# Altium footprint library miniMMC_v2.PcbLib: 24 footprints (part 1 of 2)
Each footprint in its own frame and in the unit in brackets; x right, y up, seen from the top. Pads: shape width x height; smd on the part's side, far side on the other; paste and mask are expansions set on the pad; w line width, h text height; cw(c..) or ccw(c..) is an arc to the next point about the centre after c.
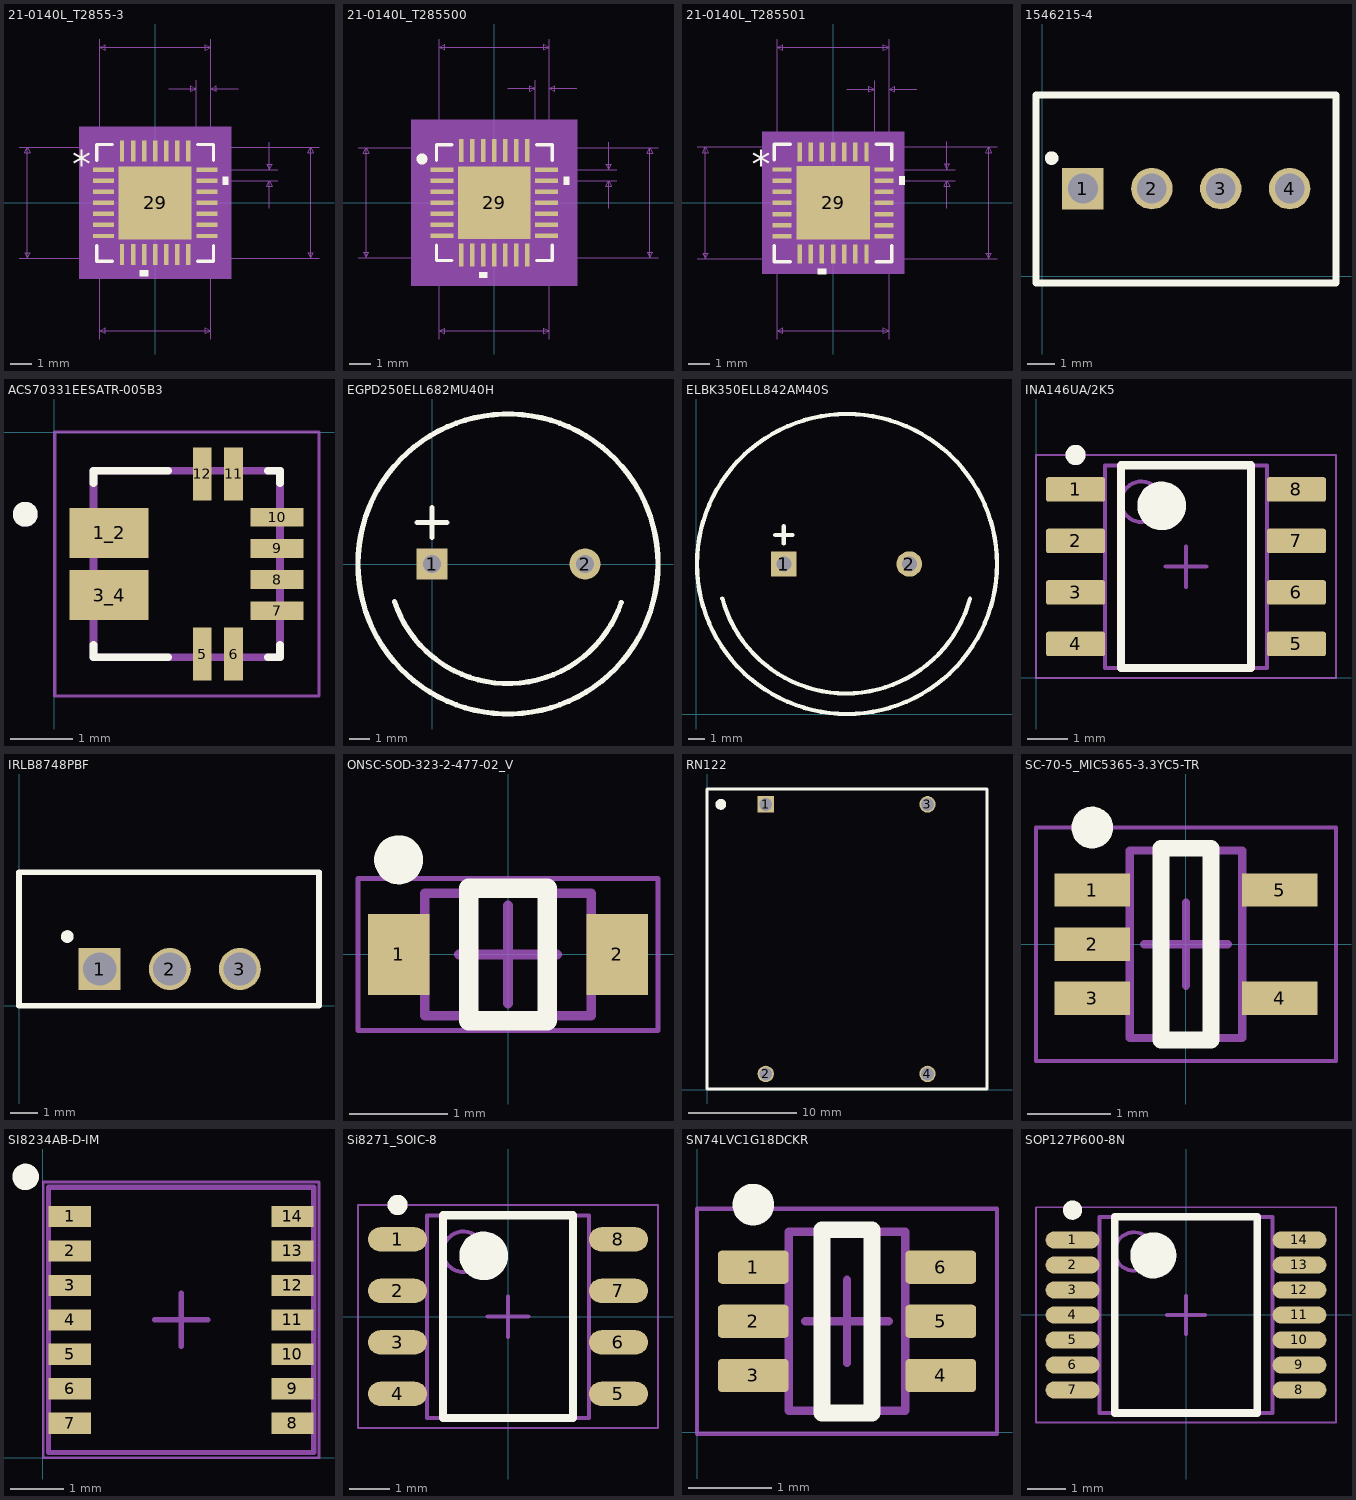
[diagram p0: the footprints below, top view; thin cyan lines are the x and y axes]

## 21-0140L_T2855-3 [mil]
pads (29):
  rect 38x8 smd paste+0 mask+0: 1(-93.5,60) 2(-93.5,40) 3(-93.5,20) 4(-93.5,0) 5(-93.5,-20) 6(-93.5,-40) 7(-93.5,-60) 15(93.5,-60) 16(93.5,-40) 17(93.5,-20) 18(93.5,0) 19(93.5,20) 20(93.5,40) 21(93.5,60)
  rect 8x38 smd paste+0 mask+0: 8(-60,-93.5) 9(-40,-93.5) 10(-20,-93.5) 11(0,-93.5) 12(20,-93.5) 13(40,-93.5) 14(60,-93.5) 22(60,93.5) 23(40,93.5) 24(20,93.5) 25(0,93.5) 26(-20,93.5) 27(-40,93.5) 28(-60,93.5)
  rect 132x132 smd paste-65.5 mask+0: 29(0,0)
Top Overlay:
  region: -12.5,-122.5 -27.5,-122.5 -27.5,-132.5 -12.5,-132.5
  region: 122.5,47.5 132.5,47.5 132.5,32.5 122.5,32.5
  lines w6: -105.5,-77.1 -105.5,-105.5 -77.1,-105.5 ; -105.5,77.1 -105.5,105.5 -77.1,105.5 ; 77.1,-105.5 105.5,-105.5 105.5,-77.1 ; 77.1,105.5 105.5,105.5 105.5,77.1
  text "*" at -150,45 h50
Top Paste:
  region: -3.94,62.06 -62.06,62.06 -62.06,3.94 -3.94,3.94
  region: -3.94,-3.94 -62.06,-3.94 -62.06,-62.06 -3.94,-62.06
  region: 62.06,62.06 3.94,62.06 3.94,3.94 62.06,3.94
  region: 62.06,-3.94 3.94,-3.94 3.94,-62.06 62.06,-62.06
Mechanical 5:
  region: 137.5,-137.5 -137.5,-137.5 -137.5,137.5 137.5,137.5
Mechanical 7:
  lines w1: -246.5,-100.5 100.5,-100.5 ; -246.5,100.5 100.5,100.5 100.5,-246.5 ; -100.5,-246.5 -100.5,100.5 ; -100.5,60 -100.5,296.5 ; 24.5,206.5 74.5,206.5 ; 60,-100.5 296.5,-100.5 ; 60,100.5 296.5,100.5 ; 74.5,60 74.5,221.5 ; 93.5,40 221.5,40 ; 93.5,60 221.5,60 ; 100.5,221.5 100.5,60 100.5,296.5 ; 150.5,206.5 100.5,206.5 ; 206.5,-10 206.5,40 ; 206.5,110 206.5,60 ; -231.5,-100.5 -231.5,100.5 ; -231.5,-100.5 -236.5,-90.5 -226.5,-90.5 -231.5,-100.5 ; -231.5,100.5 -236.5,90.5 -226.5,90.5 -231.5,100.5 ; -100.5,-231.5 100.5,-231.5 ; -100.5,-231.5 -90.5,-226.5 -90.5,-236.5 -100.5,-231.5 ; -100.5,281.5 100.5,281.5 ; -100.5,281.5 -90.5,286.5 -90.5,276.5 -100.5,281.5 ; 74.5,206.5 64.5,211.5 64.5,201.5 74.5,206.5 ; 100.5,-231.5 90.5,-226.5 90.5,-236.5 100.5,-231.5 ; 100.5,206.5 110.5,211.5 110.5,201.5 100.5,206.5 ; 100.5,281.5 90.5,286.5 90.5,276.5 100.5,281.5 ; 206.5,40 201.5,30 211.5,30 206.5,40 ; 206.5,60 201.5,70 211.5,70 206.5,60 ; 281.5,-100.5 281.5,100.5 ; 281.5,-100.5 276.5,-90.5 286.5,-90.5 281.5,-100.5 ; 281.5,100.5 276.5,90.5 286.5,90.5 281.5,100.5
  text "Default Padstyle: RX8Y38D0T" at -337.5,-422.5 h50
  text "Heat Tab Padstyle: RX132Y132D0T" at -387.5,-482.5 h50
  text "Alt 1 Padstyle: OX60Y90D30P" at -337.5,-602.5 h50
  text "Alt 2 Padstyle: OX90Y60D30P" at -337.5,-662.5 h50
  text "0.02in/0.508mm" at 226.5,37.5 h25
  text "0.026in/0.66mm" at 0,226.5 h25
  text "0.201in/5.105mm" at -93.75,301.5 h25
  text "0.201in/5.105mm" at 301.5,-12.5 h25
  text "0.201in/5.105mm" at -439,-12.5 h25
  text "0.201in/5.105mm" at -93.75,-276.5 h25
Mechanical 13:
  lines w1: -100.5,50.5 -50.5,100.5 ; -100.5,-100.5 100.5,-100.5 100.5,100.5 -100.5,100.5 -100.5,-100.5 ; -100.5,-66 -100.5,-54 -100.5,-66 ; -100.5,-46 -100.5,-34 -100.5,-46 ; -100.5,-26 -100.5,-14 -100.5,-26 ; -100.5,-6 -100.5,6 -100.5,-6 ; -100.5,14 -100.5,26 -100.5,14 ; -100.5,34 -100.5,46 -100.5,34 ; -100.5,54 -100.5,66 -100.5,54 ; -66,-100.5 -54,-100.5 -66,-100.5 ; -66,100.5 -54,100.5 -66,100.5 ; -46,-100.5 -34,-100.5 -46,-100.5 ; -46,100.5 -34,100.5 -46,100.5 ; -26,-100.5 -14,-100.5 -26,-100.5 ; -26,100.5 -14,100.5 -26,100.5 ; -6,-100.5 6,-100.5 -6,-100.5 ; -6,100.5 6,100.5 -6,100.5 ; 14,-100.5 26,-100.5 14,-100.5 ; 14,100.5 26,100.5 14,100.5 ; 34,-100.5 46,-100.5 34,-100.5 ; 34,100.5 46,100.5 34,100.5 ; 54,-100.5 66,-100.5 54,-100.5 ; 54,100.5 66,100.5 54,100.5 ; 100.5,-66 100.5,-54 100.5,-66 ; 100.5,-46 100.5,-34 100.5,-46 ; 100.5,-26 100.5,-14 100.5,-26 ; 100.5,-6 100.5,6 100.5,-6 ; 100.5,14 100.5,26 100.5,14 ; 100.5,34 100.5,46 100.5,34 ; 100.5,54 100.5,66 100.5,54
  text "*" at -87,45 h50
Mechanical 15:
  region: -74,-110.5 -110.5,-110.5 -110.5,-74 -122.5,-74 -122.5,74 -110.5,74 -110.5,110.5 -74,110.5 -74,122.5 74,122.5 74,110.5 110.5,110.5 110.5,74 122.5,74 122.5,-74 110.5,-74 110.5,-110.5 74,-110.5 74,-122.5 -74,-122.5
  lines w6: -122.5,-74 -110.5,-74 -110.5,-110.5 -74,-110.5 -74,-122.5 74,-122.5 74,-110.5 110.5,-110.5 110.5,-74 122.5,-74 122.5,74 110.5,74 110.5,110.5 74,110.5 74,122.5 -74,122.5 -74,110.5 -110.5,110.5 -110.5,74 -122.5,74 -122.5,-74
3D body: height 10, standoff 0, extent 0,0 10,10

## 21-0140L_T285500 [mil]
pads (29):
  rect 42x8 smd paste+0 mask+0: 1(-95.5,60) 2(-95.5,40) 3(-95.5,20) 4(-95.5,0) 5(-95.5,-20) 6(-95.5,-40) 7(-95.5,-60) 15(95.5,-60) 16(95.5,-40) 17(95.5,-20) 18(95.5,0) 19(95.5,20) 20(95.5,40) 21(95.5,60)
  rect 8x42 smd paste+0 mask+0: 8(-60,-95.5) 9(-40,-95.5) 10(-20,-95.5) 11(0,-95.5) 12(20,-95.5) 13(40,-95.5) 14(60,-95.5) 22(60,95.5) 23(40,95.5) 24(20,95.5) 25(0,95.5) 26(-20,95.5) 27(-40,95.5) 28(-60,95.5)
  rect 132x132 smd paste-65.5 mask+0: 29(0,0)
Top Overlay:
  circle w10: c-131.89,79.72 r4.92
  region: -12.5,-126.5 -27.5,-126.5 -27.5,-136.5 -12.5,-136.5
  region: 126.5,47.5 136.5,47.5 136.5,32.5 126.5,32.5
  lines w6: -105.5,-77.1 -105.5,-105.5 -77.1,-105.5 ; -105.5,77.1 -105.5,105.5 -77.1,105.5 ; 77.1,-105.5 105.5,-105.5 105.5,-77.1 ; 77.1,105.5 105.5,105.5 105.5,77.1
Top Paste:
  region: -3.94,62.06 -62.06,62.06 -62.06,3.94 -3.94,3.94
  region: -3.94,-3.94 -62.06,-3.94 -62.06,-62.06 -3.94,-62.06
  region: 62.06,62.06 3.94,62.06 3.94,3.94 62.06,3.94
  region: 62.06,-3.94 3.94,-3.94 3.94,-62.06 62.06,-62.06
Mechanical 5:
  region: 151.5,-151.5 -151.5,-151.5 -151.5,151.5 151.5,151.5
Mechanical 7:
  lines w1: -248.5,-100.5 100.5,-100.5 ; -248.5,100.5 100.5,100.5 100.5,-248.5 ; -100.5,-248.5 -100.5,100.5 ; -100.5,60 -100.5,298.5 ; 24.5,208.5 74.5,208.5 ; 60,-100.5 298.5,-100.5 ; 60,100.5 298.5,100.5 ; 74.5,60 74.5,223.5 ; 95.5,40 223.5,40 ; 95.5,60 223.5,60 ; 100.5,223.5 100.5,60 100.5,298.5 ; 150.5,208.5 100.5,208.5 ; 208.5,-10 208.5,40 ; 208.5,110 208.5,60 ; -233.5,-100.5 -233.5,100.5 ; -233.5,-100.5 -238.5,-90.5 -228.5,-90.5 -233.5,-100.5 ; -233.5,100.5 -238.5,90.5 -228.5,90.5 -233.5,100.5 ; -100.5,-233.5 100.5,-233.5 ; -100.5,-233.5 -90.5,-228.5 -90.5,-238.5 -100.5,-233.5 ; -100.5,283.5 100.5,283.5 ; -100.5,283.5 -90.5,288.5 -90.5,278.5 -100.5,283.5 ; 74.5,208.5 64.5,213.5 64.5,203.5 74.5,208.5 ; 100.5,-233.5 90.5,-228.5 90.5,-238.5 100.5,-233.5 ; 100.5,208.5 110.5,213.5 110.5,203.5 100.5,208.5 ; 100.5,283.5 90.5,288.5 90.5,278.5 100.5,283.5 ; 208.5,40 203.5,30 213.5,30 208.5,40 ; 208.5,60 203.5,70 213.5,70 208.5,60 ; 283.5,-100.5 283.5,100.5 ; 283.5,-100.5 278.5,-90.5 288.5,-90.5 283.5,-100.5 ; 283.5,100.5 278.5,90.5 288.5,90.5 283.5,100.5
  text "Default Padstyle: RX8Y42D0T" at -337.5,-426.5 h50
  text "Heat Tab Padstyle: RX132Y132D0T" at -387.5,-486.5 h50
  text "Alt 1 Padstyle: OX60Y90D30P" at -337.5,-606.5 h50
  text "Alt 2 Padstyle: OX90Y60D30P" at -337.5,-666.5 h50
  text "0.02in/0.508mm" at 228.5,37.5 h25
  text "0.026in/0.66mm" at 0,228.5 h25
  text "0.201in/5.105mm" at -93.75,303.5 h25
  text "0.201in/5.105mm" at 303.5,-12.5 h25
  text "0.201in/5.105mm" at -441,-12.5 h25
  text "0.201in/5.105mm" at -93.75,-278.5 h25
Mechanical 13:
  lines w1: -100.5,50.5 -50.5,100.5 ; -100.5,-100.5 100.5,-100.5 100.5,100.5 -100.5,100.5 -100.5,-100.5 ; -100.5,-66 -100.5,-54 -100.5,-66 ; -100.5,-46 -100.5,-34 -100.5,-46 ; -100.5,-26 -100.5,-14 -100.5,-26 ; -100.5,-6 -100.5,6 -100.5,-6 ; -100.5,14 -100.5,26 -100.5,14 ; -100.5,34 -100.5,46 -100.5,34 ; -100.5,54 -100.5,66 -100.5,54 ; -66,-100.5 -54,-100.5 -66,-100.5 ; -66,100.5 -54,100.5 -66,100.5 ; -46,-100.5 -34,-100.5 -46,-100.5 ; -46,100.5 -34,100.5 -46,100.5 ; -26,-100.5 -14,-100.5 -26,-100.5 ; -26,100.5 -14,100.5 -26,100.5 ; -6,-100.5 6,-100.5 -6,-100.5 ; -6,100.5 6,100.5 -6,100.5 ; 14,-100.5 26,-100.5 14,-100.5 ; 14,100.5 26,100.5 14,100.5 ; 34,-100.5 46,-100.5 34,-100.5 ; 34,100.5 46,100.5 34,100.5 ; 54,-100.5 66,-100.5 54,-100.5 ; 54,100.5 66,100.5 54,100.5 ; 100.5,-66 100.5,-54 100.5,-66 ; 100.5,-46 100.5,-34 100.5,-46 ; 100.5,-26 100.5,-14 100.5,-26 ; 100.5,-6 100.5,6 100.5,-6 ; 100.5,14 100.5,26 100.5,14 ; 100.5,34 100.5,46 100.5,34 ; 100.5,54 100.5,66 100.5,54
  text "*" at -87,45 h50
Mechanical 15:
  region: -84,-120.5 -120.5,-120.5 -120.5,-84 -136.5,-84 -136.5,84 -120.5,84 -120.5,120.5 -84,120.5 -84,136.5 84,136.5 84,120.5 120.5,120.5 120.5,84 136.5,84 136.5,-84 120.5,-84 120.5,-120.5 84,-120.5 84,-136.5 -84,-136.5
  lines w6: -136.5,-84 -120.5,-84 -120.5,-120.5 -84,-120.5 -84,-136.5 84,-136.5 84,-120.5 120.5,-120.5 120.5,-84 136.5,-84 136.5,84 120.5,84 120.5,120.5 84,120.5 84,136.5 -84,136.5 -84,120.5 -120.5,120.5 -120.5,84 -136.5,84 -136.5,-84
3D body "User Library-QFN 5x5.STEP": height 30.03, standoff 0.5, extent -98.43,-98.43 98.5,98.5
3D body: height 10, standoff 0, extent 0,0 10,10

## 21-0140L_T285501 [mil]
pads (29):
  rect 34x8 smd paste+0 mask+0: 1(-91.5,60) 2(-91.5,40) 3(-91.5,20) 4(-91.5,0) 5(-91.5,-20) 6(-91.5,-40) 7(-91.5,-60) 15(91.5,-60) 16(91.5,-40) 17(91.5,-20) 18(91.5,0) 19(91.5,20) 20(91.5,40) 21(91.5,60)
  rect 8x34 smd paste+0 mask+0: 8(-60,-91.5) 9(-40,-91.5) 10(-20,-91.5) 11(0,-91.5) 12(20,-91.5) 13(40,-91.5) 14(60,-91.5) 22(60,91.5) 23(40,91.5) 24(20,91.5) 25(0,91.5) 26(-20,91.5) 27(-40,91.5) 28(-60,91.5)
  rect 132x132 smd paste-65.5 mask+0: 29(0,0)
Top Overlay:
  region: -12.5,-118.5 -27.5,-118.5 -27.5,-128.5 -12.5,-128.5
  region: 118.5,47.5 128.5,47.5 128.5,32.5 118.5,32.5
  lines w6: -105.5,-77.1 -105.5,-105.5 -77.1,-105.5 ; -105.5,77.1 -105.5,105.5 -77.1,105.5 ; 77.1,-105.5 105.5,-105.5 105.5,-77.1 ; 77.1,105.5 105.5,105.5 105.5,77.1
  text "*" at -146,45 h50
Top Paste:
  region: -3.94,62.06 -62.06,62.06 -62.06,3.94 -3.94,3.94
  region: -3.94,-3.94 -62.06,-3.94 -62.06,-62.06 -3.94,-62.06
  region: 62.06,62.06 3.94,62.06 3.94,3.94 62.06,3.94
  region: 62.06,-3.94 3.94,-3.94 3.94,-62.06 62.06,-62.06
Mechanical 5:
  region: 127.5,-127.5 -127.5,-127.5 -127.5,127.5 127.5,127.5
Mechanical 7:
  lines w1: -244.5,-100.5 100.5,-100.5 ; -244.5,100.5 100.5,100.5 100.5,-244.5 ; -100.5,-244.5 -100.5,100.5 ; -100.5,60 -100.5,294.5 ; 24.5,204.5 74.5,204.5 ; 60,-100.5 294.5,-100.5 ; 60,100.5 294.5,100.5 ; 74.5,60 74.5,219.5 ; 91.5,40 219.5,40 ; 91.5,60 219.5,60 ; 100.5,219.5 100.5,60 100.5,294.5 ; 150.5,204.5 100.5,204.5 ; 204.5,-10 204.5,40 ; 204.5,110 204.5,60 ; -229.5,-100.5 -229.5,100.5 ; -229.5,-100.5 -234.5,-90.5 -224.5,-90.5 -229.5,-100.5 ; -229.5,100.5 -234.5,90.5 -224.5,90.5 -229.5,100.5 ; -100.5,-229.5 100.5,-229.5 ; -100.5,-229.5 -90.5,-224.5 -90.5,-234.5 -100.5,-229.5 ; -100.5,279.5 100.5,279.5 ; -100.5,279.5 -90.5,284.5 -90.5,274.5 -100.5,279.5 ; 74.5,204.5 64.5,209.5 64.5,199.5 74.5,204.5 ; 100.5,-229.5 90.5,-224.5 90.5,-234.5 100.5,-229.5 ; 100.5,204.5 110.5,209.5 110.5,199.5 100.5,204.5 ; 100.5,279.5 90.5,284.5 90.5,274.5 100.5,279.5 ; 204.5,40 199.5,30 209.5,30 204.5,40 ; 204.5,60 199.5,70 209.5,70 204.5,60 ; 279.5,-100.5 279.5,100.5 ; 279.5,-100.5 274.5,-90.5 284.5,-90.5 279.5,-100.5 ; 279.5,100.5 274.5,90.5 284.5,90.5 279.5,100.5
  text "Default Padstyle: RX8Y34D0T" at -337.5,-418.5 h50
  text "Heat Tab Padstyle: RX132Y132D0T" at -387.5,-478.5 h50
  text "Alt 1 Padstyle: OX60Y90D30P" at -337.5,-598.5 h50
  text "Alt 2 Padstyle: OX90Y60D30P" at -337.5,-658.5 h50
  text "0.02in/0.508mm" at 224.5,37.5 h25
  text "0.026in/0.66mm" at 0,224.5 h25
  text "0.201in/5.105mm" at -93.75,299.5 h25
  text "0.201in/5.105mm" at 299.5,-12.5 h25
  text "0.201in/5.105mm" at -437,-12.5 h25
  text "0.201in/5.105mm" at -93.75,-274.5 h25
Mechanical 13:
  lines w1: -100.5,50.5 -50.5,100.5 ; -100.5,-100.5 100.5,-100.5 100.5,100.5 -100.5,100.5 -100.5,-100.5 ; -100.5,-66 -100.5,-54 -100.5,-66 ; -100.5,-46 -100.5,-34 -100.5,-46 ; -100.5,-26 -100.5,-14 -100.5,-26 ; -100.5,-6 -100.5,6 -100.5,-6 ; -100.5,14 -100.5,26 -100.5,14 ; -100.5,34 -100.5,46 -100.5,34 ; -100.5,54 -100.5,66 -100.5,54 ; -66,-100.5 -54,-100.5 -66,-100.5 ; -66,100.5 -54,100.5 -66,100.5 ; -46,-100.5 -34,-100.5 -46,-100.5 ; -46,100.5 -34,100.5 -46,100.5 ; -26,-100.5 -14,-100.5 -26,-100.5 ; -26,100.5 -14,100.5 -26,100.5 ; -6,-100.5 6,-100.5 -6,-100.5 ; -6,100.5 6,100.5 -6,100.5 ; 14,-100.5 26,-100.5 14,-100.5 ; 14,100.5 26,100.5 14,100.5 ; 34,-100.5 46,-100.5 34,-100.5 ; 34,100.5 46,100.5 34,100.5 ; 54,-100.5 66,-100.5 54,-100.5 ; 54,100.5 66,100.5 54,100.5 ; 100.5,-66 100.5,-54 100.5,-66 ; 100.5,-46 100.5,-34 100.5,-46 ; 100.5,-26 100.5,-14 100.5,-26 ; 100.5,-6 100.5,6 100.5,-6 ; 100.5,14 100.5,26 100.5,14 ; 100.5,34 100.5,46 100.5,34 ; 100.5,54 100.5,66 100.5,54
  text "*" at -87,45 h50
Mechanical 15:
  region: -68,-104.5 -104.5,-104.5 -104.5,-68 -112.5,-68 -112.5,68 -104.5,68 -104.5,104.5 -68,104.5 -68,112.5 68,112.5 68,104.5 104.5,104.5 104.5,68 112.5,68 112.5,-68 104.5,-68 104.5,-104.5 68,-104.5 68,-112.5 -68,-112.5
  lines w6: -112.5,-68 -104.5,-68 -104.5,-104.5 -68,-104.5 -68,-112.5 68,-112.5 68,-104.5 104.5,-104.5 104.5,-68 112.5,-68 112.5,68 104.5,68 104.5,104.5 68,104.5 68,112.5 -68,112.5 -68,104.5 -104.5,104.5 -104.5,68 -112.5,68 -112.5,-68
3D body: height 10, standoff 0, extent 0,0 10,10

## 1546215-4 [mm] "Fixed Terminal Blocks TERMI-BLOK PCB MOUNT, 90 4P"
pads (4):
  rect 1.524x1.524 hole 1.1: 1(1.5,3.225)
  round 1.524 hole 1.1: 2(4.04,3.225) 3(6.58,3.225) 4(9.12,3.225)
Top Overlay:
  circle w0.254: c0.35,4.35 r0.125
  lines w0.254: -0.225,-0.25 -0.225,6.675 10.825,6.675 10.825,-0.25 -0.225,-0.25
3D body "1546215-4 v1.step": height 9.94, standoff -3.35, extent 0,0 10.625,6.453

## ACS70331EESATR-005B3 [mm] "Current Sensor Current Sensor AC/DC Current 12-Pin QFN EP T/R"
pads (10):
  rect 1.27x0.8 smd: 1_2(0.887,-1.622) 3_4(0.887,-2.622)
  rect 0.3x0.85 smd: 5(2.387,-3.572) 6(2.887,-3.572) 11(2.887,-0.672) 12(2.387,-0.672)
  rect 0.85x0.3 smd: 7(3.587,-2.872) 8(3.587,-2.372) 9(3.587,-1.872) 10(3.587,-1.372)
Top Overlay:
  circle w0.2: c-0.463,-1.322 r0.1
  lines w0.127: 0.637,-3.422 0.637,-3.622 1.837,-3.622 ; 0.637,-0.822 0.637,-0.622 1.837,-0.622 ; 3.437,-3.622 3.637,-3.622 3.637,-3.422 ; 3.437,-0.622 3.637,-0.622 3.637,-0.822
Mechanical 4:
  circle w0.2: c-0.463,-1.322 r0.1
  circle w0.2: c-0.463,-1.322 r0.1
  lines w0.127: 0.637,-3.622 0.637,-0.622 ; 0.637,-3.622 3.637,-3.622 ; 0.637,-3.622 0.637,-0.622 ; 0.637,-3.622 3.637,-3.622 ; 0.637,-0.622 3.637,-0.622 ; 0.637,-0.622 3.637,-0.622 ; 3.637,-3.622 3.637,-0.622 ; 3.637,-3.622 3.637,-0.622
Mechanical 16:
  lines w0.05: 0.012,-4.247 4.262,-4.247 4.262,0.003 0.012,0.003 0.012,-4.247
3D body "ACS70331EESATR-005B3--3DModel-STEP-56544.STEP": height 0.81, standoff 0.01, extent 0.65,-3.625 3.65,-0.625

## EGPD250ELL682MU40H [mil] "6800µF 25V Aluminum Electrolytic Capacitors Radial, Can 22mOhm @ 100kHz 3000 Hrs @ 135°C"
pads (2):
  rect 60x60 hole 35.43: 1(0,0)
  round 60 hole 35.43: 2(295.28,0)
Top Overlay:
  circle w10: c146.65,0 r289.47
  lines w10: -72.52,-72.28 ccw(c146.65,0) 365.16,-74.24 ; -29.04,80.22 29.04,80.22 ; 0,51.18 0,109.25
3D body "EGPD250ELL682MU40H-ND v1.step": height 1499.78, standoff -1065.13, extent -143.22,-290.39 436.53,289.37

## ELBK350ELL842AM40S [mm] "Aluminium Electrolytic Capacitors - Radial Leaded 35V 8400uF +30%"
pads (2):
  rect 1.524x1.524 hole 0.9: 1(5.225,8.975)
  round 1.524 hole 0.9: 2(12.725,8.975)
Top Overlay:
  circle w0.254: c9,8.975 r8.967
  lines w0.254: 1.548,6.916 ccw(c8.95,8.9) 16.346,6.894 ; 4.712,10.712 5.738,10.712 ; 5.225,10.2 5.225,11.225
3D body "ELBK350ELL842AM40S v1.step": height 46.89, standoff -18.99, extent 0,0 18,18

## INA146UA/2K5 [mm]
pads (8):
  rrect17% 1.45x0.6 smd: 1(0.97,4.647) 2(0.97,3.377) 3(0.97,2.107) 4(0.97,0.837) 5(6.42,0.837) 6(6.42,2.107) 7(6.42,3.377) 8(6.42,4.647)
Top Overlay:
  circle w0.6: c3.095,4.242 r0.3
  circle w0.25: c0.97,5.497 r0.125
  lines w0.2: 2.095,0.242 5.295,0.242 5.295,5.242 2.095,5.242 2.095,0.242
Mechanical 1:
  text ".Designator" at 2.298,2.488 h0.6
Mechanical 13:
  circle w0.1: c2.595,4.342 r0.5
  lines w0.1: 1.695,0.242 5.695,0.242 5.695,5.242 1.695,5.242 1.695,0.242
Mechanical 15:
  lines w0.05: -0.005,-0.008 7.395,-0.008 7.395,5.492 -0.005,5.492 -0.005,-0.008
  lines w0.1: 3.195,2.742 4.195,2.742 ; 3.695,2.242 3.695,3.242
3D body "SOIC-8akaD0008AakaM08A.stp": height 1.63, standoff 0, extent 0.695,0.292 6.695,5.192

## IRLB8748PBF [mil]
pads (3):
  rect 60x60 hole 47.24: 1(115.2,52.17)
  round 60 hole 47.24: 2(215.2,52.17) 3(315.2,52.17)
Top Overlay:
  circle w10: c68.9,98.43 r4.06
  lines w7.87: 0,0 428.15,0 428.15,189.96 0,189.96 0,0
3D body "IRLB8748PBF v1.step": height 772.91, standoff -374.91, extent 6.89,6.89 420.37,183.23

## ONSC-SOD-323-2-477-02_V [mm] "SOD, 2-Leads, Body 1.7x1.25mm"
height 1.062
pads (2):
  rect 0.63x0.83 smd: 1(-1.115,0) 2(1.115,0)
Top Overlay:
  circle w0.25: c-1.115,0.965 r0.125
  lines w0.2: -0.4,-0.675 0.4,-0.675 0.4,0.675 -0.4,0.675 -0.4,-0.675
Mechanical 13:
  lines w0.1: -0.85,-0.625 0.85,-0.625 0.85,0.625 -0.85,0.625 -0.85,-0.625
Mechanical 15:
  lines w0.05: -1.53,-0.775 1.53,-0.775 1.53,0.775 -1.53,0.775 -1.53,-0.775
  lines w0.1: -0.5,0 0.5,0 ; 0,-0.5 0,0.5
3D body: height 1.06, standoff 0, extent -0.85,-0.625 0.85,0.625

## RN122 [mil] "Inductor 4S 1.8mH 42mOhm"
pads (4):
  rect 60x60 hole 47.24: 1(214.23,1041.34)
  round 60 hole 47.24: 2(214.23,57.09) 3(804.78,1041.34) 4(804.78,57.09)
Top Overlay:
  circle w19.68: c50.2,1041.34 r9.84
  lines w10: 0,1.97 1021.65,1.97 1021.65,1097.44 0,1097.44 0,1.97
3D body "RN122 v4.step": height 644.91, standoff -194.28, extent 0,0 1020.97,1098.43

## SC-70-5_MIC5365-3.3YC5-TR [mm] "SOT23, 5-Leads, Body 2.03x2.10mm, Pitch 0.65mm, IPC Medium Density"
height 1.1
pads (5):
  rect 0.9x0.4 smd: 1(-1.125,0.65) 2(-1.125,0) 3(-1.125,-0.65) 4(1.125,-0.65) 5(1.125,0.65)
Top Overlay:
  circle w0.25: c-1.125,1.4 r0.125
  lines w0.2: -0.3,-1.15 0.3,-1.15 0.3,1.15 -0.3,1.15 -0.3,-1.15
Mechanical 13:
  lines w0.1: -0.675,-1.125 -0.675,1.125 0.675,1.125 0.675,-1.125 -0.675,-1.125
Mechanical 15:
  lines w0.05: -1.8,-1.4 -1.8,1.4 1.8,1.4 1.8,-1.4 -1.8,-1.4
  lines w0.1: -0.5,0 0.5,0 ; 0,-0.5 0,0.5
3D body "SOT65P210X110-5N.step": height 1.1, standoff 0, extent -1.2,-1.125 1.2,1.125

## SI8234AB-D-IM [mm]
pads (14):
  rect 0.8x0.4 smd: 1(0.507,4.554) 2(0.507,3.904) 3(0.507,3.254) 4(0.507,2.604) 5(0.507,1.954) 6(0.507,1.304) 7(0.507,0.654) 8(4.707,0.654) 9(4.707,1.304) 10(4.707,1.954) 11(4.707,2.604) 12(4.707,3.254) 13(4.707,3.904) 14(4.707,4.554)
Top Overlay:
  circle w0.25: c-0.325,5.3 r0.125
Mechanical 13:
  lines w0.1: 0.107,0.104 0.107,5.104 5.107,5.104 5.107,0.104 0.107,0.104
Mechanical 15:
  lines w0.05: 0.007,0.004 5.207,0.004 5.207,5.204 0.007,5.204 0.007,0.004
  lines w0.1: 2.107,2.604 3.107,2.604 ; 2.607,2.104 2.607,3.104
3D body: height 0.94, standoff 0, extent 0.107,0.104 5.107,5.104

## Si8271_SOIC-8 [mm] "SOIC, 8-Leads, Body 4.90x3.90mm, Pitch 1.27mm, IPC Medium Density"
height 1.75
pads (8):
  oval 1.45x0.6 smd: 1(-2.725,1.905) 2(-2.725,0.635) 3(-2.725,-0.635) 4(-2.725,-1.905) 5(2.725,-1.905) 6(2.725,-0.635) 7(2.725,0.635) 8(2.725,1.905)
Top Overlay:
  circle w0.6: c-0.6,1.5 r0.3
  circle w0.25: c-2.725,2.755 r0.125
  lines w0.2: -1.6,-2.5 1.6,-2.5 1.6,2.5 -1.6,2.5 -1.6,-2.5
Mechanical 13:
  circle w0.1: c-1.1,1.6 r0.5
  lines w0.1: -2,-2.5 2,-2.5 2,2.5 -2,2.5 -2,-2.5
Mechanical 15:
  lines w0.05: -3.7,-2.75 3.7,-2.75 3.7,2.75 -3.7,2.75 -3.7,-2.75
  lines w0.1: -0.5,0 0.5,0 ; 0,-0.5 0,0.5
3D body "SOIC127P600X175-8N.step": height 1.75, standoff 0, extent -3,-2.5 3,2.5

## SN74LVC1G18DCKR [mm]
pads (6):
  rrect25% 0.85x0.4 smd: 1(0.673,1.982) 2(0.673,1.332) 3(0.673,0.682) 4(2.923,0.682) 5(2.923,1.332) 6(2.923,1.982)
Top Overlay:
  circle w0.25: c0.673,2.732 r0.125
  lines w0.2: 1.498,0.232 1.498,2.432 2.098,2.432 2.098,0.232 1.498,0.232
Mechanical 1:
  text ".Designator" at 1.163,1.205 h0.3
Mechanical 13:
  lines w0.1: 1.098,0.257 2.498,0.257 2.498,2.407 1.098,2.407 1.098,0.257
Mechanical 15:
  lines w0.05: -0.002,-0.018 3.598,-0.018 3.598,2.682 -0.002,2.682 -0.002,-0.018
  lines w0.1: 1.298,1.332 2.298,1.332 ; 1.798,0.832 1.798,1.832
3D body "DCK0006AakaMAA06.stp": height 0.94, standoff -0.01, extent 0.658,0.332 2.938,2.332

## SOP127P600-8N [mm] "INA303A3IPWR  IC CURRENT SENSING AMP 14TSSOP"
height 1.2
pads (14):
  oval 1.4x0.45 smd: 1(-2.95,1.95) 2(-2.95,1.3) 3(-2.95,0.65) 4(-2.95,0) 5(-2.95,-0.65) 6(-2.95,-1.3) 7(-2.95,-1.95) 8(2.95,-1.95) 9(2.95,-1.3) 10(2.95,-0.65) 11(2.95,0) 12(2.95,0.65) 13(2.95,1.3) 14(2.95,1.95)
Top Overlay:
  circle w0.25: c-2.95,2.725 r0.125
  circle w0.6: c-0.85,1.55 r0.3
  lines w0.2: -1.85,-2.55 -1.85,2.55 1.85,2.55 1.85,-2.55 -1.85,-2.55
Mechanical 13:
  circle w0.1: c-1.35,1.65 r0.5
  lines w0.1: -2.25,-2.55 -2.25,2.55 2.25,2.55 2.25,-2.55 -2.25,-2.55
Mechanical 15:
  lines w0.05: -3.9,-2.8 -3.9,2.8 3.9,2.8 3.9,-2.8 -3.9,-2.8
  lines w0.1: -0.5,0 0.5,0 ; 0,-0.5 0,0.5
3D body "SOP127P600-8N.step": height 1.2, standoff 0, extent -3.2,-2.55 3.2,2.55